# EAGLE library part BQ24072 (library TI-bq24075)
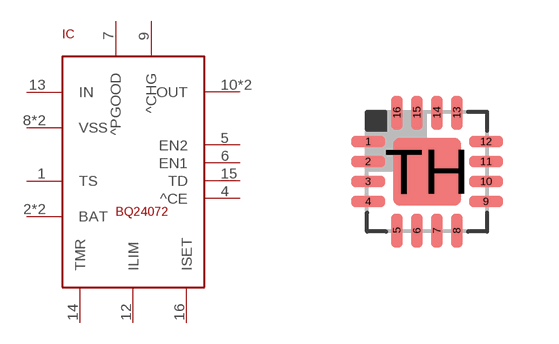
[diagram p1: symbol with the pads of QFN16; footprint QFN16]

Designator prefix IC

## BQ24072  [QFN16]
1  TS
2  BAT
3  BAT
4  ^CE
5  EN2
6  EN1
7  ^PGOOD
8  VSS
9  ^CHG
10  OUT
11  OUT
12  ILIM
13  IN
14  TMR
15  TD
16  ISET
TH  VSS

## Footprint QFN16 (pad centres in mm)
RTE (S-PQFP-N16) 3x3 mm Source: www.ti.com .. tpa6132a2 direct path stereo $.65.pdf
smd 0.85 x 0.28: 1 -1.475,0.75; 2 -1.475,0.25; 3 -1.475,-0.25; 4 -1.475,-0.75; 9 1.475,-0.75; 10 1.475,-0.25; 11 1.475,0.25; 12 1.475,0.75
smd 0.28 x 0.85: 5 -0.75,-1.475; 6 -0.25,-1.475; 7 0.25,-1.475; 8 0.75,-1.475; 13 0.75,1.475; 14 0.25,1.475; 15 -0.25,1.475; 16 -0.75,1.475
smd 1.7 x 1.7: TH 0,0